# EAGLE library part STM32F401VCT6/7 (library Tristan+Robitaille_s+Library)
STMicroelectronics STM32F4 ARM Cortex M4 32-bit MCU with FPU - STM32F401VCT6/7 Technical specifications: Flash memory: 256KB RAM: 64KB Clock frequency: 84MHz Input voltage: 1.7V to 3.6V Current consumption: 128 µA/MHz Datasheet <http://www.st.com/content/ccc/resource/technical/document/datasheet/9e/50/b1/5a/5f/ae/4d/c1/DM00086815.pdf/files/DM00086815.pdf/jcr:content/translations/en.DM00086815.pdf> Digi-Key part #: 497-14048-ND <http://www.digikey.ca/product-detail/en/stmicroelectronics/STM32F401VCT6/497-14048-ND/4494301> Mouser part #: 511-STM32F401VCT6 <http://www.mouser.com/ProductDetail/STMicroelectronics/STM32F401VCT6/?qs=%2fha2pyFadui1YcVs9LwlR0174ub5IhrU9awImz0Y%252bvHNcG0BOzK8cA%3d%3d> Manufacturer part #: STM32F401VCT6/7
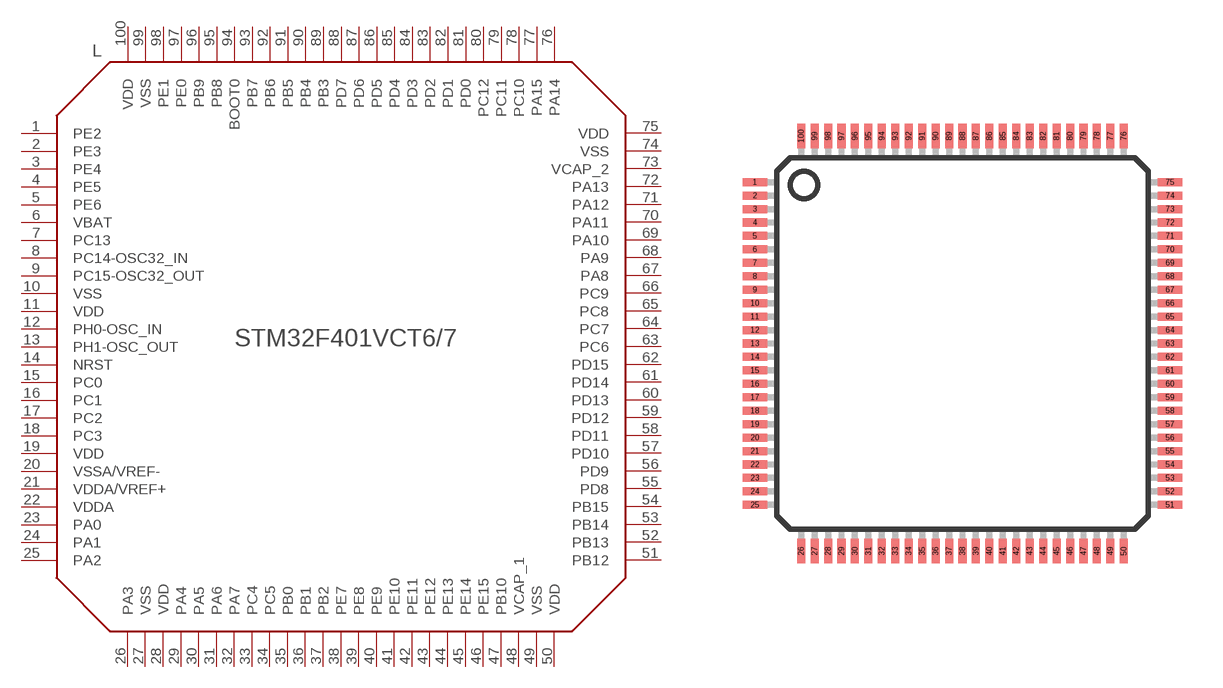
[diagram p7: symbol with the pads of LQFP100; footprint LQFP100]

Designator prefix L

## STM32F401VCT6/7 (DIGIKEY#: 497-14048-ND; MANF: STM32F401VCT6/7 MCU + DSP; MANF#: STM32F401VCT6/7; MOUSER#: 511-STM32F401VCT6)  [LQFP100]
1  PE2
2  PE3
3  PE4
4  PE5
5  PE6
6  VBAT  pwr
7  PC13
8  PC14-OSC32_IN
9  PC15-OSC32_OUT
10  VSS  pwr
11  VDD  pwr
12  PH0-OSC_IN
13  PH1-OSC_OUT
14  NRST
15  PC0
16  PC1
17  PC2
18  PC3
19  VDD  pwr
20  VSSA/VREF-  pwr
21  VDDA/VREF+  pwr
22  VDDA  pwr
23  PA0
24  PA1
25  PA2
26  PA3
27  VSS  pwr
28  VDD  pwr
29  PA4
30  PA5
31  PA6
32  PA7
33  PC4
34  PC5
35  PB0
36  PB1
37  PB2
38  PE7
39  PE8
40  PE9
41  PE10
42  PE11
43  PE12
44  PE13
45  PE14
46  PE15
47  PB10
48  VCAP_1  pwr
49  VSS  pwr
50  VDD  pwr
51  PB12
52  PB13
53  PB14
54  PB15
55  PD8
56  PD9
57  PD10
58  PD11
59  PD12
60  PD13
61  PD14
62  PD15
63  PC6
64  PC7
65  PC8
66  PC9
67  PA8
68  PA9
69  PA10
70  PA11
71  PA12
72  PA13
73  VCAP_2  pwr
74  VSS  pwr
75  VDD  pwr
76  PA14
77  PA15
78  PC10
79  PC11
80  PC12
81  PD0
82  PD1
83  PD2
84  PD3
85  PD4
86  PD5
87  PD6
88  PD7
89  PB3
90  PB4
91  PB5
92  PB6
93  PB7
94  BOOT0
95  PB8
96  PB9
97  PE0
98  PE1
99  VSS  pwr
100  VDD  pwr

## Footprint LQFP100 (pad centres in mm)
Low Profile Quad Flat Pack
smd 0.9 x 0.3: 1 -7.72,6; 2 -7.72,5.5; 3 -7.72,5; 4 -7.72,4.5; 5 -7.72,4; 6 -7.72,3.5; 7 -7.72,3; 8 -7.72,2.5; 9 -7.72,2; 10 -7.72,1.5; 11 -7.72,1; 12 -7.72,0.5; 13 -7.72,0; 14 -7.72,-0.5; 15 -7.72,-1; 16 -7.72,-1.5; 17 -7.72,-2; 18 -7.72,-2.5; 19 -7.72,-3; 20 -7.72,-3.5; 21 -7.72,-4; 22 -7.72,-4.5; 23 -7.72,-5; 24 -7.72,-5.5; 25 -7.72,-6; 51 7.72,-6; 52 7.72,-5.5; 53 7.72,-5; 54 7.72,-4.5; 55 7.72,-4; 56 7.72,-3.5; 57 7.72,-3; 58 7.72,-2.5; 59 7.72,-2; 60 7.72,-1.5; 61 7.72,-1; 62 7.72,-0.5; 63 7.72,0; 64 7.72,0.5; 65 7.72,1; 66 7.72,1.5; 67 7.72,2; 68 7.72,2.5; 69 7.72,3; 70 7.72,3.5; 71 7.72,4; 72 7.72,4.5; 73 7.72,5; 74 7.72,5.5; 75 7.72,6
smd 0.3 x 0.9: 26 -6,-7.72; 27 -5.5,-7.72; 28 -5,-7.72; 29 -4.5,-7.72; 30 -4,-7.72; 31 -3.5,-7.72; 32 -3,-7.72; 33 -2.5,-7.72; 34 -2,-7.72; 35 -1.5,-7.72; 36 -1,-7.72; 37 -0.5,-7.72; 38 0,-7.72; 39 0.5,-7.72; 40 1,-7.72; 41 1.5,-7.72; 42 2,-7.72; 43 2.5,-7.72; 44 3,-7.72; 45 3.5,-7.72; 46 4,-7.72; 47 4.5,-7.72; 48 5,-7.72; 49 5.5,-7.72; 50 6,-7.72; 76 6,7.72; 77 5.5,7.72; 78 5,7.72; 79 4.5,7.72; 80 4,7.72; 81 3.5,7.72; 82 3,7.72; 83 2.5,7.72; 84 2,7.72; 85 1.5,7.72; 86 1,7.72; 87 0.5,7.72; 88 0,7.72; 89 -0.5,7.72; 90 -1,7.72; 91 -1.5,7.72; 92 -2,7.72; 93 -2.5,7.72; 94 -3,7.72; 95 -3.5,7.72; 96 -4,7.72; 97 -4.5,7.72; 98 -5,7.72; 99 -5.5,7.72; 100 -6,7.72